# Altium footprint library 各类插件.PcbLib: 43 footprints (part 2 of 3)
Each footprint in its own frame and in the unit in brackets; x right, y up, seen from the top. Pads: shape width x height; smd on the part's side, far side on the other; paste and mask are expansions set on the pad; w line width, h text height; cw(c..) or ccw(c..) is an arc to the next point about the centre after c.
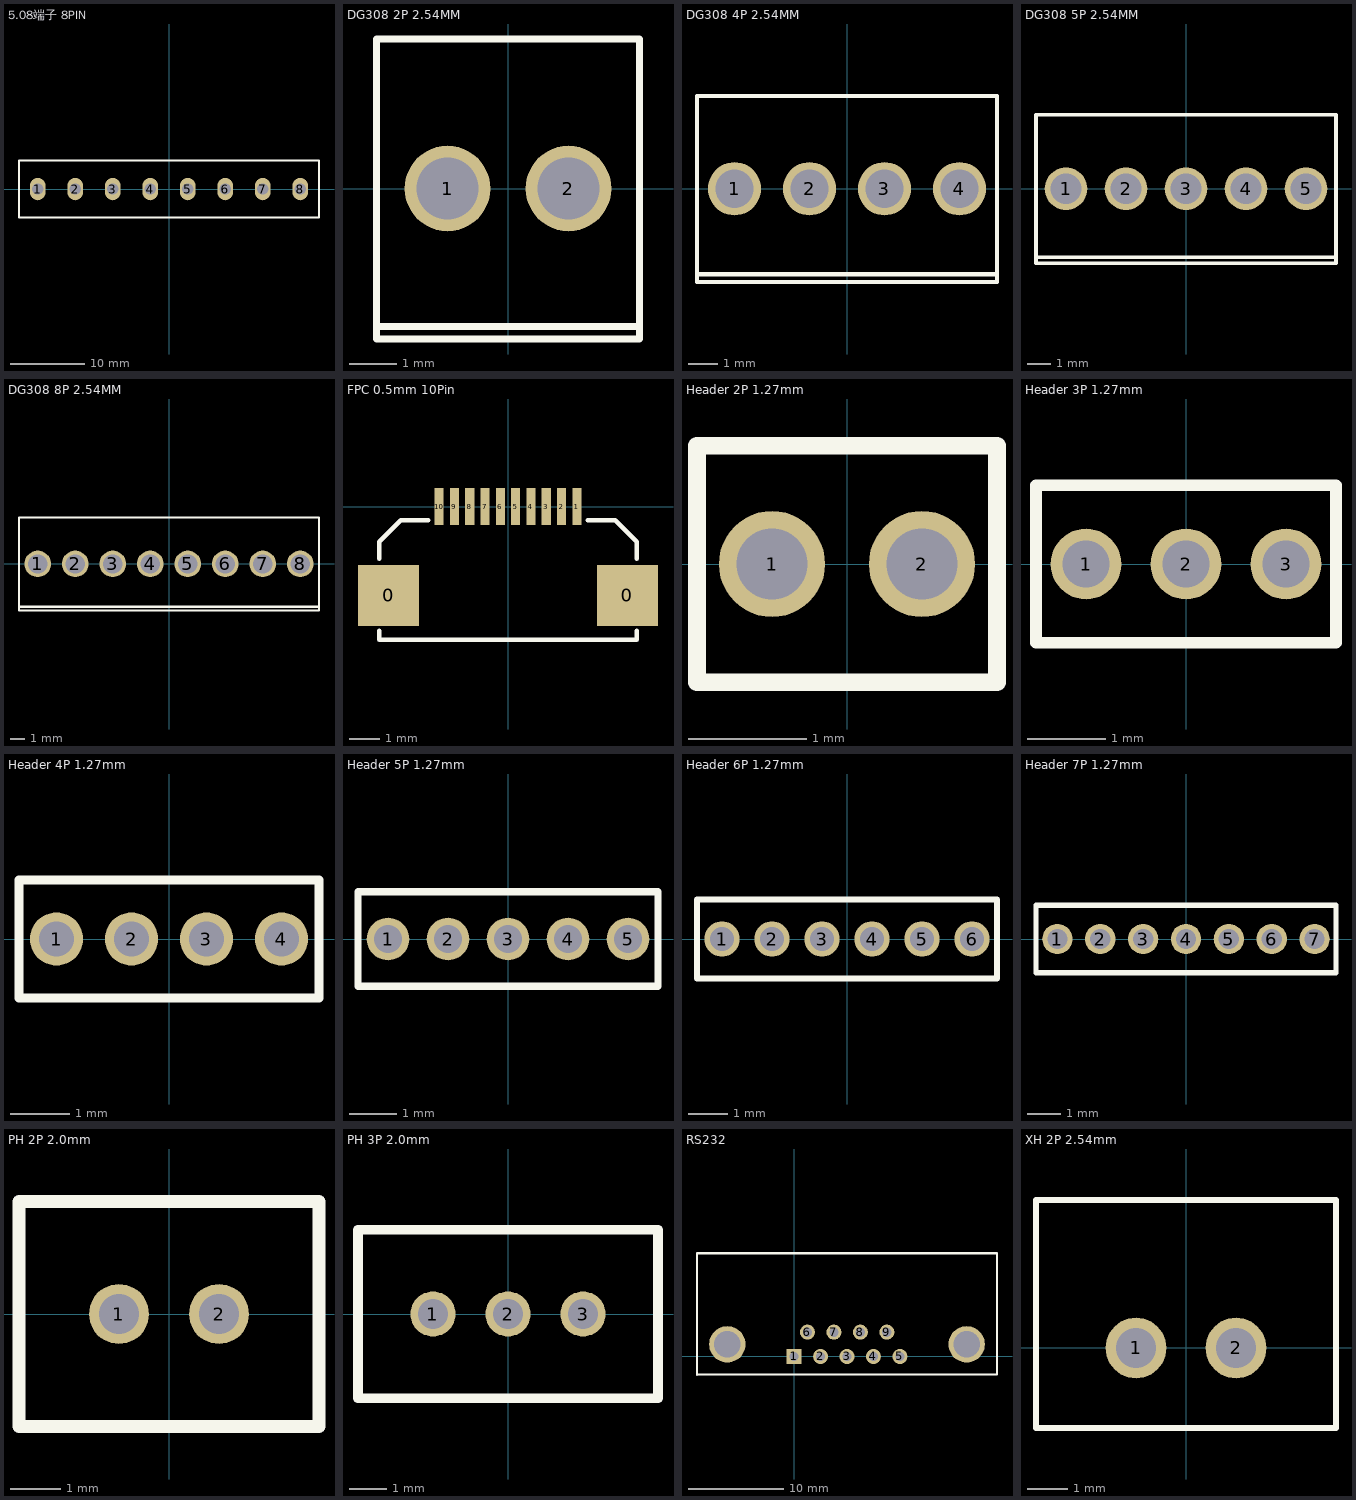
[diagram p1: the footprints below, top view; thin cyan lines are the x and y axes]

## 5.08端子 8PIN [mil]
height 346.46
pads (8):
  oval 85x120 hole 59.06: 1(-700,0) 2(-500,0) 3(-300,0) 4(-100,0) 5(100,0) 6(300,0) 7(500,0) 8(700,0)
Top Overlay:
  lines w10: -800,-151.57 800,-151.57 800,151.57 -800,151.57 -800,-151.57

## DG308 2P 2.54MM [mm]
height 8.8
pads (2):
  round 1.8 hole 1.3 paste+0: 1(-1.27,0) 2(1.27,0)
Top Overlay:
  lines w0.15: -2.765,-2.9 2.765,-2.9 ; -2.765,-3.16 2.765,-3.16 2.765,3.14 -2.765,3.14 -2.765,-3.16

## DG308 4P 2.54MM [mm]
height 8.8
pads (4):
  round 1.8 hole 1.3 paste+0: 1(-3.81,0) 2(-1.27,0) 3(1.27,0) 4(3.81,0)
Top Overlay:
  lines w0.15: -5.08,-2.9 5.08,-2.9 ; -5.08,-3.16 -5.08,3.14 5.08,3.14 5.08,-3.16 -5.08,-3.16

## DG308 5P 2.54MM [mm]
pads (5):
  round 1.8 hole 1.3 paste+0: 1(-5.08,0) 2(-2.54,0) 3(0,0) 4(2.54,0) 5(5.08,0)
Top Overlay:
  lines w0.15: -6.3,-2.9 6.35,-2.9 ; -6.35,-3.16 6.35,-3.16 6.35,3.14 -6.35,3.14 -6.35,-3.16

## DG308 8P 2.54MM [mm]
height 8.8
pads (8):
  round 1.8 hole 1.3 paste+0: 1(-8.89,0) 2(-6.35,0) 3(-3.81,0) 4(-1.27,0) 5(1.27,0) 6(3.81,0) 7(6.35,0) 8(8.89,0)
Top Overlay:
  lines w0.15: -10.16,-2.9 10.16,-2.9 ; -10.16,-3.16 10.16,-3.16 10.16,3.14 -10.16,3.14 -10.16,-3.16

## FPC 0.5mm 10Pin [mm]
pads (12):
  rect 2x2 smd: 0(-3.9,-2.9) 0(3.9,-2.9)
  rect 0.3x1.2 smd: 1(2.25,0) 2(1.75,0) 3(1.25,0) 4(0.75,0) 5(0.25,0) 6(-0.25,0) 7(-0.75,0) 8(-1.25,0) 9(-1.75,0) 10(-2.25,0)
Top Overlay:
  lines w0.15: -4.2,-4.05 -4.2,-4.35 4.2,-4.35 4.2,-4.05 ; -4.2,-1.7 -4.2,-1.15 -3.5,-0.45 -2.6,-0.45 ; 2.6,-0.45 3.5,-0.45 4.2,-1.15 4.2,-1.7

## Header 2P 1.27mm [mm]
pads (2):
  round 0.9 hole 0.6 paste+0: 1(-0.635,0)
  round 0.9 hole 0.6: 2(0.635,0)
Top Overlay:
  lines w0.15: -1.27,-1 1.27,-1 1.27,1 -1.27,1 -1.27,-1

## Header 3P 1.27mm [mm]
pads (3):
  round 0.9 hole 0.6 paste+0: 1(-1.27,0)
  round 0.9 hole 0.6: 2(0,0) 3(1.27,0)
Top Overlay:
  lines w0.15: -1.905,-1 -1.905,1 1.905,1 1.905,-1 -1.905,-1

## Header 4P 1.27mm [mm]
pads (4):
  round 0.9 hole 0.6: 1(-1.905,0) 3(0.635,0) 4(1.905,0)
  round 0.9 hole 0.6 paste+0: 2(-0.635,0)
Top Overlay:
  lines w0.15: -2.54,-1 -2.54,1 2.54,1 2.54,-1 -2.54,-1

## Header 5P 1.27mm [mm]
pads (5):
  round 0.9 hole 0.6: 1(-2.54,0) 3(0,0) 4(1.27,0) 5(2.54,0)
  round 0.9 hole 0.6 paste+0: 2(-1.27,0)
Top Overlay:
  lines w0.15: -3.175,-1 3.175,-1 3.175,1 -3.175,1 -3.175,-1

## Header 6P 1.27mm [mm]
pads (6):
  round 0.9 hole 0.6: 1(-3.175,0) 2(-1.905,0) 4(0.635,0) 5(1.905,0) 6(3.175,0)
  round 0.9 hole 0.6 paste+0: 3(-0.635,0)
Top Overlay:
  lines w0.15: -3.81,-1 -3.81,1 3.81,1 3.81,-1 -3.81,-1

## Header 7P 1.27mm [mm]
pads (7):
  round 0.9 hole 0.6: 1(-3.81,0) 2(-2.54,0) 4(0,0) 5(1.27,0) 6(2.54,0) 7(3.81,0)
  round 0.9 hole 0.6 paste+0: 3(-1.27,0)
Top Overlay:
  lines w0.15: -4.445,-1 4.445,-1 4.445,1 -4.445,1 -4.445,-1

## PH 2P 2.0mm [mm]
pads (2):
  round 1.2 hole 0.8: 1(-1,0) 2(1,0)
Top Overlay:
  lines w0.254: -3,-2.25 -3,2.25 3,2.25 3,-2.25 -3,-2.25

## PH 3P 2.0mm [mm]
pads (3):
  round 1.2 hole 0.8: 1(-2,0) 2(0,0) 3(2,0)
Top Overlay:
  lines w0.254: -4,-2.25 4,-2.25 4,2.25 -4,2.25 -4,-2.25

## RS232 [mil]
pads (11):
  rect 62x62 hole 38: 1(0,0)
  round 62 hole 38: 2(109,0) 3(218,0) 4(327,0) 5(436,0) 6(55,100) 7(164,100) 8(273,100) 9(382,100)
  round 150 hole 110: ""(-275,50) ""(711,50)
Top Overlay:
  lines w8: -400,-75 836,-75 836,425
  lines w10: -400,-75 -400,425 836,425

## XH 2P 2.54mm [mm]
pads (2):
  round 1.524 hole 1: 1(-1.25,0)
  round 1.524 hole 1 paste+0: 2(1.25,0)
Top Overlay:
  lines w0.15: -3.75,-2 3.75,-2 3.75,3.7 -3.75,3.7 -3.75,-2